# EAGLE library part OMRON (library relay)
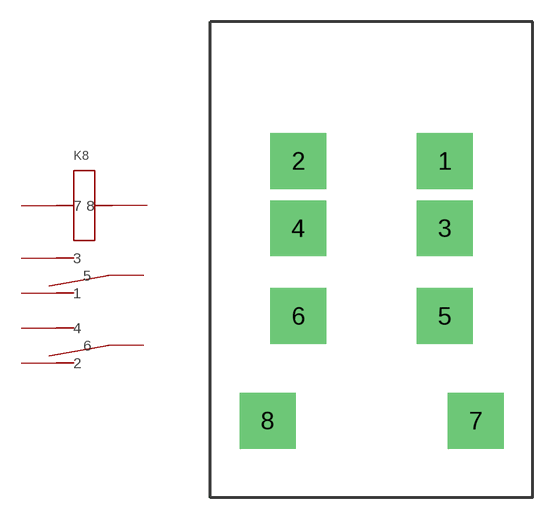
[diagram p0: symbol with the pads of LY2-0; footprint LY2-0]

Designator prefix U

## OMRONLY2-0-DC24  [LY2-0]
1  1
2  2
3  3
4  4
5  5
6  6
7  7
8  8

## Footprint LY2-0 (pad centres in mm)
drill 2.8 square: 1 10,0; 2 0,0; 3 10,-4.6; 4 0,-4.6; 5 10,-10.6; 6 0,-10.6; 7 12.1,-17.75; 8 -2.1,-17.75